# Altium integrated library Diodes - TVS.IntLib: 5379 symbols (part 84 of 122)
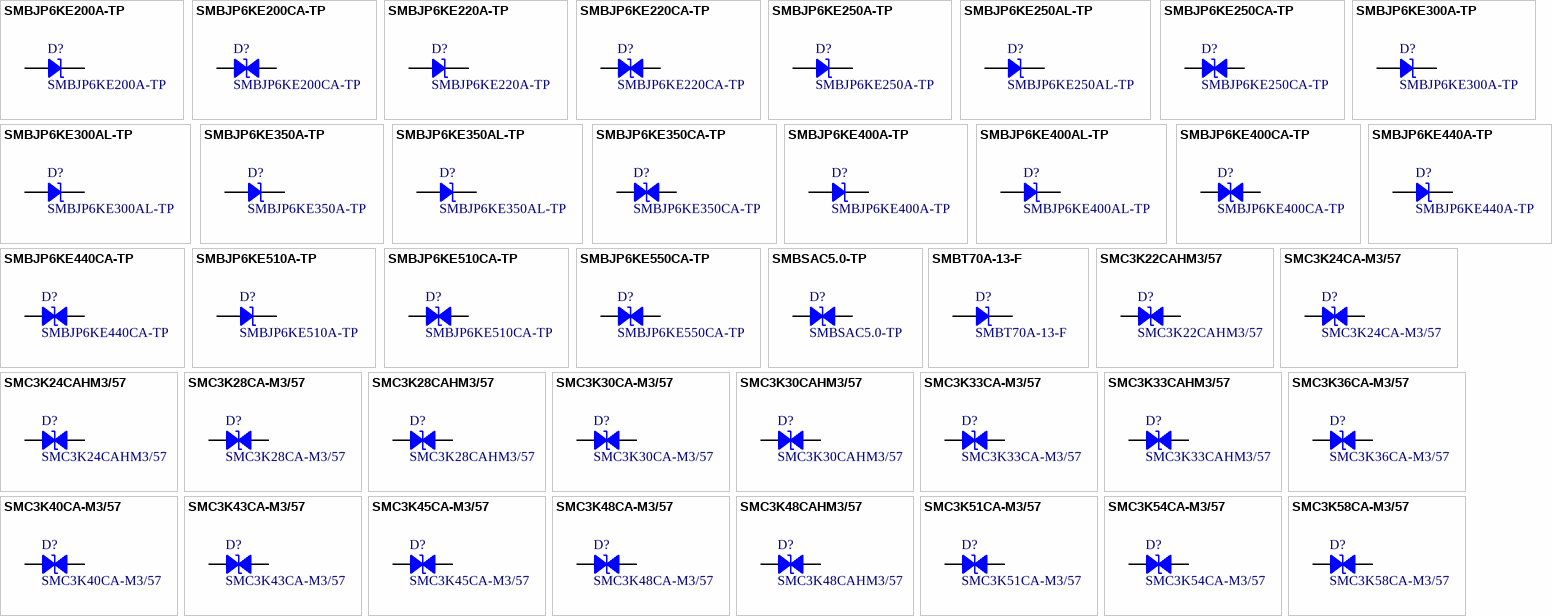
[diagram p217: symbols SMBJP6KE200A-TP to SMC3K58CA-M3/57]

## SMBJP6KE220A-TP
designator D?
TVS DIODE 185V 328V DO214AA; Manufacturer: Micro Commercial Co; Current - Peak Pulse (10/1000µs): 1.9A; Power Line Protection: No; Power - Peak Pulse: 600W; Type: Zener; Unidirectional Channels: 1; Voltage - Breakdown (Min): 209V; Part Number: SMBJP6KE220A-TP; Applications: General Purpose; ComponentLink1Description: Datasheet; ComponentLink1URL: https://www.mccsemi.com/pdf/Products/SMBJP6KE6.8(C)A-SMBJP6KE550(C)A(DO-214AA).pdf; ComponentLink2Description: DigiKey Link; ComponentLink2URL: http://digikey.com/product-detail/en/micro-commercial-co/SMBJP6KE220A-TP/SMBJP6KE220A-TPMSCT-ND/2345730; LastUpdated: 9/2/2020 1:19:43 AM; Lifecycle Status: Active; Minimum Order: 1; Mounting Type: Surface Mount; Operating Temperature: -55°C ~ 175°C (TJ); Package / Case: DO-214AA, SMB; Packaging: TapeAndReel; PartId: 10550; Part Status: Active; Price: 0.11; Series: SMBJ; Supplier 1: DigiKey; Supplier Part Number 1: SMBJP6KE220A-TPMSCT-ND; Supplier Device Package: DO-214AA (SMBJ); Voltage - Clamping (Max) @ Ipp: 328V; Voltage - Reverse Standoff (Typ): 185V
footprint DO214AA SMB
pins: 1, 2

## SMBJP6KE220CA-TP
designator D?
TVS DIODE 185V 328V DO214AA; Manufacturer: Micro Commercial Co; Bidirectional Channels: 1; Current - Peak Pulse (10/1000µs): 1.9A; Power Line Protection: No; Power - Peak Pulse: 600W; Type: Zener; Voltage - Breakdown (Min): 209V; Part Number: SMBJP6KE220CA-TP; Applications: General Purpose; ComponentLink1Description: Datasheet; ComponentLink1URL: https://www.mccsemi.com/pdf/Products/SMBJP6KE6.8(C)A-SMBJP6KE550(C)A(DO-214AA).pdf; ComponentLink2Description: DigiKey Link; ComponentLink2URL: http://digikey.com/product-detail/en/micro-commercial-co/SMBJP6KE220CA-TP/SMBJP6KE220CA-TPMSCT-ND/2345731; LastUpdated: 9/2/2020 1:28:15 AM; Lifecycle Status: Active; Minimum Order: 1; Mounting Type: Surface Mount; Operating Temperature: -55°C ~ 175°C (TJ); Package / Case: DO-214AA, SMB; Packaging: TapeAndReel; PartId: 8837; Part Status: Active; Price: 0.20; Series: SMBJ; Supplier 1: DigiKey; Supplier Part Number 1: SMBJP6KE220CA-TPMSCT-ND; Supplier Device Package: DO-214AA (SMBJ); Voltage - Clamping (Max) @ Ipp: 328V; Voltage - Reverse Standoff (Typ): 185V
footprint DO214AA SMB
pins: 1, 2

## SMBJP6KE250A-TP
designator D?
600WTVSSMB; Manufacturer: Micro Commercial Co; Current - Peak Pulse (10/1000µs): 1.9A; Power Line Protection: No; Power - Peak Pulse: 600W; Type: Zener; Unidirectional Channels: 1; Voltage - Breakdown (Min): 237V; Voltage - Clamping (Max) @ Ipp: 344V; Voltage - Reverse Standoff (Typ): 214V; Part Number: SMBJP6KE250A-TP; Applications: General Purpose; ComponentLink1Description: Datasheet; ComponentLink1URL: https://www.mccsemi.com/pdf/Products/SMBJP6KE6.8(C)A-SMBJP6KE550(C)A(DO-214AA)-V2.pdf; ComponentLink2Description: DigiKey Link; ComponentLink2URL: http://digikey.com/product-detail/en/micro-commercial-co/SMBJP6KE250A-TP/SMBJP6KE250A-TPMSCT-ND/10054424; LastUpdated: 9/2/2020 1:19:46 AM; Lifecycle Status: Active; Minimum Order: 1; Mounting Type: Surface Mount; Operating Temperature: -65°C ~ 150°C (TJ); Package / Case: DO-214AA, SMB; Packaging: TapeAndReel; PartId: 10843; Part Status: Active; Price: 0.20; Series: -; Supplier 1: DigiKey; Supplier Part Number 1: SMBJP6KE250A-TPMSCT-ND; Supplier Device Package: DO-214AA (SMB)
footprint DO214AA SMB
pins: 1, 2

## SMBJP6KE250AL-TP
designator D?
TVS DIODE 214V 344V DO214AA; Manufacturer: Micro Commercial Co; Current - Peak Pulse (10/1000µs): 1.9A; Power Line Protection: No; Power - Peak Pulse: 600W; Type: Zener; Unidirectional Channels: 1; Voltage - Breakdown (Min): 237V; Part Number: SMBJP6KE250AL-TP; Applications: General Purpose; ComponentLink1Description: Datasheet; ComponentLink1URL: https://www.mccsemi.com/pdf/Products/SMBJP6KE250AL~400AL(DO-214AA)-A.pdf; ComponentLink2Description: DigiKey Link; ComponentLink2URL: http://digikey.com/product-detail/en/micro-commercial-co/SMBJP6KE250AL-TP/SMBJP6KE250AL-TPMSCT-ND/6616159; LastUpdated: 9/2/2020 1:19:47 AM; Lifecycle Status: Active; Minimum Order: 1; Mounting Type: Surface Mount; Operating Temperature: -55°C ~ 175°C (TJ); Package / Case: DO-214AA, SMB; Packaging: TapeAndReel; PartId: 10920; Part Status: Active; Price: 0.16; Series: -; Supplier 1: DigiKey; Supplier Part Number 1: SMBJP6KE250AL-TPMSCT-ND; Supplier Device Package: DO-214AA (SMBJ); Voltage - Clamping (Max) @ Ipp: 344V; Voltage - Reverse Standoff (Typ): 214V
footprint DO214AA SMB
pins: 1, 2

## SMBJP6KE250CA-TP
designator D?
TVS DIODE 214V 344V DO214AA; Manufacturer: Micro Commercial Co; Bidirectional Channels: 1; Current - Peak Pulse (10/1000µs): 1.9A; Power Line Protection: No; Power - Peak Pulse: 600W; Type: Zener; Voltage - Breakdown (Min): 237V; Part Number: SMBJP6KE250CA-TP; Applications: General Purpose; ComponentLink1Description: Datasheet; ComponentLink1URL: https://www.mccsemi.com/pdf/Products/SMBJP6KE6.8(C)A-SMBJP6KE550(C)A(DO-214AA).pdf; ComponentLink2Description: DigiKey Link; ComponentLink2URL: http://digikey.com/product-detail/en/micro-commercial-co/SMBJP6KE250CA-TP/SMBJP6KE250CA-TPMSCT-ND/2345736; LastUpdated: 9/2/2020 1:28:15 AM; Lifecycle Status: Active; Minimum Order: 1; Mounting Type: Surface Mount; Operating Temperature: -55°C ~ 175°C (TJ); Package / Case: DO-214AA, SMB; Packaging: TapeAndReel; PartId: 8836; Part Status: Active; Price: 0.20; Series: SMBJ; Supplier 1: DigiKey; Supplier Part Number 1: SMBJP6KE250CA-TPMSCT-ND; Supplier Device Package: DO-214AA (SMBJ); Voltage - Clamping (Max) @ Ipp: 344V; Voltage - Reverse Standoff (Typ): 214V
footprint DO214AA SMB
pins: 1, 2

## SMBJP6KE300A-TP
designator D?
TVS DIODE 256V 414V DO214AA; Manufacturer: Micro Commercial Co; Current - Peak Pulse (10/1000µs): 1.5A; Power Line Protection: No; Power - Peak Pulse: 600W; Type: Zener; Unidirectional Channels: 1; Voltage - Breakdown (Min): 285V; Part Number: SMBJP6KE300A-TP; Applications: General Purpose; ComponentLink1Description: Datasheet; ComponentLink1URL: https://www.mccsemi.com/pdf/Products/SMBJP6KE6.8(C)A-SMBJP6KE550(C)A(DO-214AA).pdf; ComponentLink2Description: DigiKey Link; ComponentLink2URL: http://digikey.com/product-detail/en/micro-commercial-co/SMBJP6KE300A-TP/SMBJP6KE300A-TPMSCT-ND/2345739; LastUpdated: 9/2/2020 1:19:44 AM; Lifecycle Status: Active; Minimum Order: 1; Mounting Type: Surface Mount; Operating Temperature: -55°C ~ 175°C (TJ); Package / Case: DO-214AA, SMB; Packaging: TapeAndReel; PartId: 10650; Part Status: Active; Price: 0.09; Series: SMBJ; Supplier 1: DigiKey; Supplier Part Number 1: SMBJP6KE300A-TPMSCT-ND; Supplier Device Package: DO-214AA (SMBJ); Voltage - Clamping (Max) @ Ipp: 414V; Voltage - Reverse Standoff (Typ): 256V
footprint DO214AA SMB
pins: 1, 2

## SMBJP6KE300AL-TP
designator D?
TVS DIODE 256V 414V DO214AA; Manufacturer: Micro Commercial Co; Current - Peak Pulse (10/1000µs): 1.5A; Power Line Protection: No; Power - Peak Pulse: 600W; Type: Zener; Unidirectional Channels: 1; Voltage - Breakdown (Min): 285V; Part Number: SMBJP6KE300AL-TP; Applications: General Purpose; ComponentLink1Description: Datasheet; ComponentLink1URL: https://www.mccsemi.com/pdf/Products/SMBJP6KE250AL~400AL(DO-214AA)-A.pdf; ComponentLink2Description: DigiKey Link; ComponentLink2URL: http://digikey.com/product-detail/en/micro-commercial-co/SMBJP6KE300AL-TP/SMBJP6KE300AL-TPMSCT-ND/6616160; LastUpdated: 9/2/2020 1:19:47 AM; Lifecycle Status: Active; Minimum Order: 1; Mounting Type: Surface Mount; Operating Temperature: -55°C ~ 175°C (TJ); Package / Case: DO-214AA, SMB; Packaging: TapeAndReel; PartId: 10921; Part Status: Active; Price: 0.16; Series: -; Supplier 1: DigiKey; Supplier Part Number 1: SMBJP6KE300AL-TPMSCT-ND; Supplier Device Package: DO-214AA (SMBJ); Voltage - Clamping (Max) @ Ipp: 414V; Voltage - Reverse Standoff (Typ): 256V
footprint DO214AA SMB
pins: 1, 2

## SMBJP6KE350A-TP
designator D?
TVS DIODE 300V 482V DO214AA; Manufacturer: Micro Commercial Co; Current - Peak Pulse (10/1000µs): 1.3A; Power Line Protection: No; Power - Peak Pulse: 600W; Type: Zener; Unidirectional Channels: 1; Voltage - Breakdown (Min): 332V; Part Number: SMBJP6KE350A-TP; Applications: General Purpose; ComponentLink1Description: Datasheet; ComponentLink1URL: https://www.mccsemi.com/pdf/Products/SMBJP6KE6.8(C)A-SMBJP6KE550(C)A(DO-214AA).pdf; ComponentLink2Description: DigiKey Link; ComponentLink2URL: http://digikey.com/product-detail/en/micro-commercial-co/SMBJP6KE350A-TP/SMBJP6KE350A-TPMSCT-ND/2345744; LastUpdated: 9/2/2020 1:19:44 AM; Lifecycle Status: Active; Minimum Order: 1; Mounting Type: Surface Mount; Operating Temperature: -55°C ~ 175°C (TJ); Package / Case: DO-214AA, SMB; Packaging: TapeAndReel; PartId: 10658; Part Status: Active; Price: 0.11; Series: SMBJ; Supplier 1: DigiKey; Supplier Part Number 1: SMBJP6KE350A-TPMSCT-ND; Supplier Device Package: DO-214AA (SMBJ); Voltage - Clamping (Max) @ Ipp: 482V; Voltage - Reverse Standoff (Typ): 300V
footprint DO214AA SMB
pins: 1, 2

## SMBJP6KE350AL-TP
designator D?
TVS DIODE 300V 482V DO214AA; Manufacturer: Micro Commercial Co; Current - Peak Pulse (10/1000µs): 1.3A; Power Line Protection: No; Power - Peak Pulse: 600W; Type: Zener; Unidirectional Channels: 1; Voltage - Breakdown (Min): 332V; Part Number: SMBJP6KE350AL-TP; Applications: General Purpose; ComponentLink1Description: Datasheet; ComponentLink1URL: https://www.mccsemi.com/pdf/Products/SMBJP6KE250AL~400AL(DO-214AA)-A.pdf; ComponentLink2Description: DigiKey Link; ComponentLink2URL: http://digikey.com/product-detail/en/micro-commercial-co/SMBJP6KE350AL-TP/SMBJP6KE350AL-TPMSCT-ND/6616161; LastUpdated: 9/2/2020 1:19:47 AM; Lifecycle Status: Active; Minimum Order: 1; Mounting Type: Surface Mount; Operating Temperature: -55°C ~ 175°C (TJ); Package / Case: DO-214AA, SMB; Packaging: TapeAndReel; PartId: 10919; Part Status: Active; Price: 0.16; Series: -; Supplier 1: DigiKey; Supplier Part Number 1: SMBJP6KE350AL-TPMSCT-ND; Supplier Device Package: DO-214AA (SMBJ); Voltage - Clamping (Max) @ Ipp: 482V; Voltage - Reverse Standoff (Typ): 300V
footprint DO214AA SMB
pins: 1, 2

## SMBJP6KE350CA-TP
designator D?
TVS DIODE 300V 482V DO214AA; Manufacturer: Micro Commercial Co; Bidirectional Channels: 1; Current - Peak Pulse (10/1000µs): 1.3A; Power Line Protection: No; Power - Peak Pulse: 600W; Type: Zener; Voltage - Breakdown (Min): 332V; Part Number: SMBJP6KE350CA-TP; Applications: General Purpose; ComponentLink1Description: Datasheet; ComponentLink1URL: https://www.mccsemi.com/pdf/Products/SMBJP6KE6.8(C)A-SMBJP6KE550(C)A(DO-214AA).pdf; ComponentLink2Description: DigiKey Link; ComponentLink2URL: http://digikey.com/product-detail/en/micro-commercial-co/SMBJP6KE350CA-TP/SMBJP6KE350CA-TPMSCT-ND/2345745; LastUpdated: 9/2/2020 1:28:15 AM; Lifecycle Status: Active; Minimum Order: 1; Mounting Type: Surface Mount; Operating Temperature: -55°C ~ 175°C (TJ); Package / Case: DO-214AA, SMB; Packaging: TapeAndReel; PartId: 8830; Part Status: Active; Price: 0.20; Series: SMBJ; Supplier 1: DigiKey; Supplier Part Number 1: SMBJP6KE350CA-TPMSCT-ND; Supplier Device Package: DO-214AA (SMBJ); Voltage - Clamping (Max) @ Ipp: 482V; Voltage - Reverse Standoff (Typ): 300V
footprint DO214AA SMB
pins: 1, 2

## SMBJP6KE400A-TP
designator D?
TVS DIODE 342V 548V DO214AA; Manufacturer: Micro Commercial Co; Current - Peak Pulse (10/1000µs): 1.1A; Power Line Protection: No; Power - Peak Pulse: 600W; Type: Zener; Unidirectional Channels: 1; Voltage - Breakdown (Min): 380V; Part Number: SMBJP6KE400A-TP; Applications: General Purpose; ComponentLink1Description: Datasheet; ComponentLink1URL: https://www.mccsemi.com/pdf/Products/SMBJP6KE6.8(C)A-SMBJP6KE550(C)A(DO-214AA).pdf; ComponentLink2Description: DigiKey Link; ComponentLink2URL: http://digikey.com/product-detail/en/micro-commercial-co/SMBJP6KE400A-TP/SMBJP6KE400A-TPMSCT-ND/2345750; LastUpdated: 9/2/2020 1:19:45 AM; Lifecycle Status: Active; Minimum Order: 1; Mounting Type: Surface Mount; Operating Temperature: -55°C ~ 175°C (TJ); Package / Case: DO-214AA, SMB; Packaging: TapeAndReel; PartId: 10753; Part Status: Active; Price: 0.20; Series: SMBJ; Supplier 1: DigiKey; Supplier Part Number 1: SMBJP6KE400A-TPMSCT-ND; Supplier Device Package: DO-214AA (SMBJ); Voltage - Clamping (Max) @ Ipp: 548V; Voltage - Reverse Standoff (Typ): 342V
footprint DO214AA SMB
pins: 1, 2

## SMBJP6KE400AL-TP
designator D?
TVS DIODE 342V 548V DO214AA; Manufacturer: Micro Commercial Co; Current - Peak Pulse (10/1000µs): 1.1A; Power Line Protection: No; Power - Peak Pulse: 600W; Type: Zener; Unidirectional Channels: 1; Voltage - Breakdown (Min): 380V; Part Number: SMBJP6KE400AL-TP; Applications: General Purpose; ComponentLink1Description: Datasheet; ComponentLink1URL: https://www.mccsemi.com/pdf/Products/SMBJP6KE250AL~400AL(DO-214AA)-A.pdf; ComponentLink2Description: DigiKey Link; ComponentLink2URL: http://digikey.com/product-detail/en/micro-commercial-co/SMBJP6KE400AL-TP/SMBJP6KE400AL-TPMSCT-ND/6616162; LastUpdated: 9/2/2020 1:19:47 AM; Lifecycle Status: Active; Minimum Order: 1; Mounting Type: Surface Mount; Operating Temperature: -55°C ~ 175°C (TJ); Package / Case: DO-214AA, SMB; Packaging: TapeAndReel; PartId: 10918; Part Status: Active; Price: 0.16; Series: -; Supplier 1: DigiKey; Supplier Part Number 1: SMBJP6KE400AL-TPMSCT-ND; Supplier Device Package: DO-214AA (SMBJ); Voltage - Clamping (Max) @ Ipp: 548V; Voltage - Reverse Standoff (Typ): 342V
footprint DO214AA SMB
pins: 1, 2

## SMBJP6KE400CA-TP
designator D?
TVS DIODE 342V 548V DO214AA; Manufacturer: Micro Commercial Co; Bidirectional Channels: 1; Current - Peak Pulse (10/1000µs): 1.1A; Power Line Protection: No; Power - Peak Pulse: 600W; Type: Zener; Voltage - Breakdown (Min): 380V; Part Number: SMBJP6KE400CA-TP; Applications: General Purpose; ComponentLink1Description: Datasheet; ComponentLink1URL: https://www.mccsemi.com/pdf/Products/SMBJP6KE6.8(C)A-SMBJP6KE550(C)A(DO-214AA).pdf; ComponentLink2Description: DigiKey Link; ComponentLink2URL: http://digikey.com/product-detail/en/micro-commercial-co/SMBJP6KE400CA-TP/SMBJP6KE400CA-TPMSCT-ND/2345751; LastUpdated: 9/2/2020 1:28:16 AM; Lifecycle Status: Active; Minimum Order: 1; Mounting Type: Surface Mount; Operating Temperature: -55°C ~ 175°C (TJ); Package / Case: DO-214AA, SMB; Packaging: TapeAndReel; PartId: 8925; Part Status: Active; Price: 0.20; Series: SMBJ; Supplier 1: DigiKey; Supplier Part Number 1: SMBJP6KE400CA-TPMSCT-ND; Supplier Device Package: DO-214AA (SMBJ); Voltage - Clamping (Max) @ Ipp: 548V; Voltage - Reverse Standoff (Typ): 342V
footprint DO214AA SMB
pins: 1, 2

## SMBJP6KE440A-TP
designator D?
TVS DIODE 376V 602V DO214AA; Manufacturer: Micro Commercial Co; Current - Peak Pulse (10/1000µs): 1A; Power Line Protection: No; Power - Peak Pulse: 600W; Type: Zener; Unidirectional Channels: 1; Voltage - Breakdown (Min): 418V; Part Number: SMBJP6KE440A-TP; Applications: General Purpose; ComponentLink1Description: Datasheet; ComponentLink1URL: https://www.mccsemi.com/pdf/Products/SMBJP6KE6.8(C)A-SMBJP6KE550(C)A(DO-214AA).pdf; ComponentLink2Description: DigiKey Link; ComponentLink2URL: http://digikey.com/product-detail/en/micro-commercial-co/SMBJP6KE440A-TP/SMBJP6KE440A-TPMSCT-ND/5224324; LastUpdated: 9/2/2020 1:19:45 AM; Lifecycle Status: Active; Minimum Order: 1; Mounting Type: Surface Mount; Operating Temperature: -55°C ~ 175°C (TJ); Package / Case: DO-214AA, SMB; Packaging: TapeAndReel; PartId: 10752; Part Status: Active; Price: 0.20; Series: SMBJ; Supplier 1: DigiKey; Supplier Part Number 1: SMBJP6KE440A-TPMSCT-ND; Supplier Device Package: DO-214AA (SMBJ); Voltage - Clamping (Max) @ Ipp: 602V; Voltage - Reverse Standoff (Typ): 376V
footprint DO214AA SMB
pins: 1, 2

## SMBJP6KE440CA-TP
designator D?
TVS DIODE 376V 602V DO214AA; Manufacturer: Micro Commercial Co; Bidirectional Channels: 1; Current - Peak Pulse (10/1000µs): 1A; Power Line Protection: No; Power - Peak Pulse: 600W; Type: Zener; Voltage - Breakdown (Min): 418V; Part Number: SMBJP6KE440CA-TP; Applications: General Purpose; ComponentLink1Description: Datasheet; ComponentLink1URL: https://www.mccsemi.com/pdf/Products/SMBJP6KE6.8(C)A-SMBJP6KE550(C)A(DO-214AA).pdf; ComponentLink2Description: DigiKey Link; ComponentLink2URL: http://digikey.com/product-detail/en/micro-commercial-co/SMBJP6KE440CA-TP/SMBJP6KE440CA-TPMSCT-ND/2345754; LastUpdated: 9/2/2020 1:28:18 AM; Lifecycle Status: Active; Minimum Order: 1; Mounting Type: Surface Mount; Operating Temperature: -55°C ~ 175°C (TJ); Package / Case: DO-214AA, SMB; Packaging: TapeAndReel; PartId: 9168; Part Status: Active; Price: 0.20; Series: SMBJ; Supplier 1: DigiKey; Supplier Part Number 1: SMBJP6KE440CA-TPMSCT-ND; Supplier Device Package: DO-214AA (SMBJ); Voltage - Clamping (Max) @ Ipp: 602V; Voltage - Reverse Standoff (Typ): 376V
footprint DO214AA SMB
pins: 1, 2

## SMBJP6KE510A-TP
designator D?
TVS DIODE 434V 698V DO214AA; Manufacturer: Micro Commercial Co; Current - Peak Pulse (10/1000µs): 900mA; Power Line Protection: No; Power - Peak Pulse: 600W; Type: Zener; Unidirectional Channels: 1; Voltage - Breakdown (Min): 485V; Part Number: SMBJP6KE510A-TP; Applications: General Purpose; ComponentLink1Description: Datasheet; ComponentLink1URL: https://www.mccsemi.com/pdf/Products/SMBJP6KE6.8(C)A-SMBJP6KE550(C)A(DO-214AA).pdf; ComponentLink2Description: DigiKey Link; ComponentLink2URL: http://digikey.com/product-detail/en/micro-commercial-co/SMBJP6KE510A-TP/SMBJP6KE510A-TPMSCT-ND/2345757; LastUpdated: 9/2/2020 1:19:50 AM; Lifecycle Status: Active; Minimum Order: 1; Mounting Type: Surface Mount; Operating Temperature: -55°C ~ 175°C (TJ); Package / Case: DO-214AA, SMB; Packaging: TapeAndReel; PartId: 11268; Part Status: Active; Price: 0.20; Series: SMBJ; Supplier 1: DigiKey; Supplier Part Number 1: SMBJP6KE510A-TPMSCT-ND; Supplier Device Package: DO-214AA (SMBJ); Voltage - Clamping (Max) @ Ipp: 698V; Voltage - Reverse Standoff (Typ): 434V
footprint DO214AA SMB
pins: 1, 2

## SMBJP6KE510CA-TP
designator D?
TVS DIODE 434V 698V DO214AA; Manufacturer: Micro Commercial Co; Bidirectional Channels: 1; Current - Peak Pulse (10/1000µs): 900mA; Power Line Protection: No; Power - Peak Pulse: 600W; Type: Zener; Voltage - Breakdown (Min): 485V; Part Number: SMBJP6KE510CA-TP; Applications: General Purpose; ComponentLink1Description: Datasheet; ComponentLink1URL: https://www.mccsemi.com/pdf/Products/SMBJP6KE6.8(C)A-SMBJP6KE550(C)A(DO-214AA).pdf; ComponentLink2Description: DigiKey Link; ComponentLink2URL: http://digikey.com/product-detail/en/micro-commercial-co/SMBJP6KE510CA-TP/SMBJP6KE510CA-TPMSCT-ND/2345758; LastUpdated: 9/2/2020 1:28:18 AM; Lifecycle Status: Active; Minimum Order: 1; Mounting Type: Surface Mount; Operating Temperature: -55°C ~ 175°C (TJ); Package / Case: DO-214AA, SMB; Packaging: TapeAndReel; PartId: 9176; Part Status: Active; Price: 0.20; Series: SMBJ; Supplier 1: DigiKey; Supplier Part Number 1: SMBJP6KE510CA-TPMSCT-ND; Supplier Device Package: DO-214AA (SMBJ); Voltage - Clamping (Max) @ Ipp: 698V; Voltage - Reverse Standoff (Typ): 434V
footprint DO214AA SMB
pins: 1, 2

## SMBJP6KE550CA-TP
designator D?
TVS DIODE 495V 760V DO214AA; Manufacturer: Micro Commercial Co; Bidirectional Channels: 1; Current - Peak Pulse (10/1000µs): 800mA; Power Line Protection: No; Power - Peak Pulse: 600W; Type: Zener; Voltage - Breakdown (Min): 522.5V; Part Number: SMBJP6KE550CA-TP; Applications: General Purpose; ComponentLink1Description: Datasheet; ComponentLink1URL: https://www.mccsemi.com/pdf/Products/SMBJP6KE6.8(C)A-SMBJP6KE550(C)A(DO-214AA).pdf; ComponentLink2Description: DigiKey Link; ComponentLink2URL: http://digikey.com/product-detail/en/micro-commercial-co/SMBJP6KE550CA-TP/SMBJP6KE550CA-TPMSCT-ND/2345761; LastUpdated: 9/2/2020 1:28:18 AM; Lifecycle Status: Active; Minimum Order: 1; Mounting Type: Surface Mount; Operating Temperature: -55°C ~ 175°C (TJ); Package / Case: DO-214AA, SMB; Packaging: TapeAndReel; PartId: 9173; Part Status: Active; Price: 0.23; Series: SMBJ; Supplier 1: DigiKey; Supplier Part Number 1: SMBJP6KE550CA-TPMSCT-ND; Supplier Device Package: DO-214AA (SMBJ); Voltage - Clamping (Max) @ Ipp: 760V; Voltage - Reverse Standoff (Typ): 495V
footprint DO214AA SMB
pins: 1, 2

## SMBSAC5.0-TP
designator D?
TVS DIODE 5V 10V DO214AA; Manufacturer: Micro Commercial Co; Bidirectional Channels: 1; Current - Peak Pulse (10/1000µs): 44A; Power Line Protection: No; Power - Peak Pulse: 500W; Type: Zener; Voltage - Breakdown (Min): 7.6V; Part Number: SMBSAC5.0-TP; Applications: General Purpose; ComponentLink1Description: Datasheet; ComponentLink1URL: https://www.mccsemi.com/pdf/Products/SMBSAC5.0-SMBSAC50(DO-214AA).pdf; ComponentLink2Description: DigiKey Link; ComponentLink2URL: http://digikey.com/product-detail/en/micro-commercial-co/SMBSAC5.0-TP/SMBSAC5.0-TPMSCT-ND/2441288; LastUpdated: 9/2/2020 1:28:18 AM; Lifecycle Status: Active; Minimum Order: 1; Mounting Type: Surface Mount; Operating Temperature: -55°C ~ 175°C (TJ); Package / Case: DO-214AA, SMB; Packaging: TapeAndReel; PartId: 9191; Part Status: Active; Price: 0.04; Series: -; Supplier 1: DigiKey; Supplier Part Number 1: SMBSAC5.0-TPMSCT-ND; Supplier Device Package: DO-214AA (SMB); Voltage - Clamping (Max) @ Ipp: 10V; Voltage - Reverse Standoff (Typ): 5V
footprint DO214AA SMB
pins: 1, 2

## SMBT70A-13-F
designator D?
TVS DIODE 70V 100V SMB; Manufacturer: Diodes Incorporated; Capacitance @ Frequency: 290pF @ 1MHz; Current - Peak Pulse (10/1000µs): 5.3A; Power Line Protection: No; Power - Peak Pulse: 600W; Type: Zener; Unidirectional Channels: 1; Voltage - Breakdown (Min): 44.8V; Part Number: SMBT70A-13-F; Applications: General Purpose; ComponentLink1Description: Datasheet; ComponentLink1URL: https://www.diodes.com/assets/Datasheets/ds30213.pdf; ComponentLink2Description: DigiKey Link; ComponentLink2URL: http://digikey.com/product-detail/en/diodes-incorporated/SMBT70A-13-F/SMBT70A-13-FDICT-ND/2242796; LastUpdated: 9/2/2020 1:19:46 AM; Lifecycle Status: Active; Minimum Order: 1; Mounting Type: Surface Mount; Operating Temperature: -55°C ~ 150°C (TJ); Package / Case: DO-214AA, SMB; Packaging: TapeAndReel; PartId: 10838; Part Status: Active; Price: 0.20; Series: -; Supplier 1: DigiKey; Supplier Part Number 1: SMBT70A-13-FDICT-ND; Supplier Device Package: SMB; Voltage - Clamping (Max) @ Ipp: 100V; Voltage - Reverse Standoff (Typ): 70V
footprint DO214AA SMB
pins: 1, 2

## SMC3K22CAHM3/57
designator D?
TVS DIODE 22V 35.5V DO214AB; Manufacturer: Vishay Semiconductor Diodes Division; Bidirectional Channels: 1; Current - Peak Pulse (10/1000µs): 84.5A; Power Line Protection: No; Power - Peak Pulse: 3000W (3kW); Type: Zener; Voltage - Breakdown (Min): 24.4V; Part Number: SMC3K22CAHM3/57; Applications: Automotive; ComponentLink1Description: Datasheet; ComponentLink1URL: http://www.vishay.com/docs/89433/smc3k22ca.pdf; ComponentLink2Description: DigiKey Link; ComponentLink2URL: http://digikey.com/product-detail/en/vishay-semiconductor-diodes-division/SMC3K22CAHM3-57/SMC3K22CAHM3-57GICT-ND/9601109; LastUpdated: 9/2/2020 1:28:06 AM; Lifecycle Status: Active; Minimum Order: 1; Mounting Type: Surface Mount; Operating Temperature: -55°C ~ 150°C (TJ); Package / Case: DO-214AB, SMC; Packaging: TapeAndReel; PartId: 8423; Part Status: Active; Price: 0.98; Series: Automotive, AEC-Q101, TransZorb®; Supplier 1: DigiKey; Supplier Part Number 1: SMC3K22CAHM3/57GICT-ND; Supplier Device Package: DO-214AB (SMCJ); Voltage - Clamping (Max) @ Ipp: 35.5V; Voltage - Reverse Standoff (Typ): 22V
footprint DO214AB SMC
pins: 1, 2

## SMC3K24CA-M3/57
designator D?
TVS DIODE 24V 38.9V DO214AB; Manufacturer: Vishay Semiconductor Diodes Division; Bidirectional Channels: 1; Current - Peak Pulse (10/1000µs): 77.1A; Power Line Protection: No; Power - Peak Pulse: 3000W (3kW); Type: Zener; Voltage - Breakdown (Min): 26.7V; Part Number: SMC3K24CA-M3/57; Applications: General Purpose; ComponentLink1Description: Datasheet; ComponentLink1URL: http://www.vishay.com/docs/89433/smc3k22ca.pdf; ComponentLink2Description: DigiKey Link; ComponentLink2URL: http://digikey.com/product-detail/en/vishay-semiconductor-diodes-division/SMC3K24CA-M3-57/SMC3K24CA-M3-57GICT-ND/3868479; LastUpdated: 9/2/2020 1:28:04 AM; Lifecycle Status: Active; Minimum Order: 1; Mounting Type: Surface Mount; Operating Temperature: -55°C ~ 150°C (TJ); Package / Case: DO-214AB, SMC; Packaging: TapeAndReel; PartId: 8240; Part Status: Active; Price: 0.89; Series: TransZorb®; Supplier 1: DigiKey; Supplier Part Number 1: SMC3K24CA-M3/57GICT-ND; Supplier Device Package: DO-214AB (SMCJ); Voltage - Clamping (Max) @ Ipp: 38.9V; Voltage - Reverse Standoff (Typ): 24V
footprint DO214AB SMC
pins: 1, 2

## SMC3K24CAHM3/57
designator D?
TVS DIODE 24V 38.9V DO214AB; Manufacturer: Vishay Semiconductor Diodes Division; Bidirectional Channels: 1; Current - Peak Pulse (10/1000µs): 77.1A; Power Line Protection: No; Power - Peak Pulse: 3000W (3kW); Type: Zener; Voltage - Breakdown (Min): 26.7V; Part Number: SMC3K24CAHM3/57; Applications: Automotive; ComponentLink1Description: Datasheet; ComponentLink1URL: http://www.vishay.com/docs/89433/smc3k22ca.pdf; ComponentLink2Description: DigiKey Link; ComponentLink2URL: http://digikey.com/product-detail/en/vishay-semiconductor-diodes-division/SMC3K24CAHM3-57/SMC3K24CAHM3-57GICT-ND/9601110; LastUpdated: 9/2/2020 1:28:01 AM; Lifecycle Status: Active; Minimum Order: 1; Mounting Type: Surface Mount; Operating Temperature: -55°C ~ 150°C (TJ); Package / Case: DO-214AB, SMC; Packaging: TapeAndReel; PartId: 7883; Part Status: Active; Price: 0.98; Series: Automotive, AEC-Q101, TransZorb®; Supplier 1: DigiKey; Supplier Part Number 1: SMC3K24CAHM3/57GICT-ND; Supplier Device Package: DO-214AB (SMCJ); Voltage - Clamping (Max) @ Ipp: 38.9V; Voltage - Reverse Standoff (Typ): 24V
footprint DO214AB SMC
pins: 1, 2

## SMC3K28CA-M3/57
designator D?
TVS DIODE 28V 45.4V DO214AB; Manufacturer: Vishay Semiconductor Diodes Division; Bidirectional Channels: 1; Current - Peak Pulse (10/1000µs): 66.1A; Power Line Protection: No; Power - Peak Pulse: 3000W (3kW); Type: Zener; Voltage - Breakdown (Min): 31.1V; Part Number: SMC3K28CA-M3/57; Applications: General Purpose; ComponentLink1Description: Datasheet; ComponentLink1URL: http://www.vishay.com/docs/89433/smc3k22ca.pdf; ComponentLink2Description: DigiKey Link; ComponentLink2URL: http://digikey.com/product-detail/en/vishay-semiconductor-diodes-division/SMC3K28CA-M3-57/SMC3K28CA-M3-57GICT-ND/3868480; LastUpdated: 9/2/2020 1:28:07 AM; Lifecycle Status: Active; Minimum Order: 1; Mounting Type: Surface Mount; Operating Temperature: -55°C ~ 150°C (TJ); Package / Case: DO-214AB, SMC; Packaging: TapeAndReel; PartId: 8520; Part Status: Active; Price: 0.89; Series: TransZorb®; Supplier 1: DigiKey; Supplier Part Number 1: SMC3K28CA-M3/57GICT-ND; Supplier Device Package: DO-214AB (SMCJ); Voltage - Clamping (Max) @ Ipp: 45.4V; Voltage - Reverse Standoff (Typ): 28V
footprint DO214AB SMC
pins: 1, 2

## SMC3K28CAHM3/57
designator D?
TVS DIODE 28V 45.4V DO214AB; Manufacturer: Vishay Semiconductor Diodes Division; Bidirectional Channels: 1; Current - Peak Pulse (10/1000µs): 66.1A; Power Line Protection: No; Power - Peak Pulse: 3000W (3kW); Type: Zener; Voltage - Breakdown (Min): 31.1V; Part Number: SMC3K28CAHM3/57; Applications: Automotive; ComponentLink1Description: Datasheet; ComponentLink1URL: http://www.vishay.com/docs/89433/smc3k22ca.pdf; ComponentLink2Description: DigiKey Link; ComponentLink2URL: http://digikey.com/product-detail/en/vishay-semiconductor-diodes-division/SMC3K28CAHM3-57/SMC3K28CAHM3-57GICT-ND/9601111; LastUpdated: 9/2/2020 1:28:01 AM; Lifecycle Status: Active; Minimum Order: 1; Mounting Type: Surface Mount; Operating Temperature: -55°C ~ 150°C (TJ); Package / Case: DO-214AB, SMC; Packaging: TapeAndReel; PartId: 7880; Part Status: Active; Price: 0.98; Series: Automotive, AEC-Q101, TransZorb®; Supplier 1: DigiKey; Supplier Part Number 1: SMC3K28CAHM3/57GICT-ND; Supplier Device Package: DO-214AB (SMCJ); Voltage - Clamping (Max) @ Ipp: 45.4V; Voltage - Reverse Standoff (Typ): 28V
footprint DO214AB SMC
pins: 1, 2

## SMC3K30CA-M3/57
designator D?
TVS DIODE 30VWM 48.4VC DO-214AB; Manufacturer: Vishay Semiconductor Diodes Division; Bidirectional Channels: 1; Current - Peak Pulse (10/1000µs): 62A; Power Line Protection: No; Power - Peak Pulse: 3000W (3kW); Type: Zener; Voltage - Breakdown (Min): 33.3V; Voltage - Clamping (Max) @ Ipp: 48.4V; Voltage - Reverse Standoff (Typ): 30V; Part Number: SMC3K30CA-M3/57; Applications: General Purpose; ComponentLink1Description: Datasheet; ComponentLink1URL: http://www.vishay.com/docs/89433/smc3k22ca.pdf; ComponentLink2Description: DigiKey Link; ComponentLink2URL: http://digikey.com/product-detail/en/vishay-semiconductor-diodes-division/SMC3K30CA-M3-57/SMC3K30CA-M3-57GICT-ND/8565226; LastUpdated: 9/2/2020 1:28:07 AM; Lifecycle Status: Active; Minimum Order: 1; Mounting Type: Surface Mount; Operating Temperature: -55°C ~ 150°C (TJ); Package / Case: DO-214AB, SMC; Packaging: TapeAndReel; PartId: 8522; Part Status: Active; Price: 0.89; Series: TransZorb®; Supplier 1: DigiKey; Supplier Part Number 1: SMC3K30CA-M3/57GICT-ND; Supplier Device Package: DO-214AB (SMCJ)
footprint DO214AB SMC
pins: 1, 2

## SMC3K30CAHM3/57
designator D?
TVS DIODE 30V 48.4V DO214AB; Manufacturer: Vishay Semiconductor Diodes Division; Bidirectional Channels: 1; Current - Peak Pulse (10/1000µs): 62A; Power Line Protection: No; Power - Peak Pulse: 3000W (3kW); Type: Zener; Voltage - Breakdown (Min): 33.3V; Part Number: SMC3K30CAHM3/57; Applications: Automotive; ComponentLink1Description: Datasheet; ComponentLink1URL: http://www.vishay.com/docs/89433/smc3k22ca.pdf; ComponentLink2Description: DigiKey Link; ComponentLink2URL: http://digikey.com/product-detail/en/vishay-semiconductor-diodes-division/SMC3K30CAHM3-57/SMC3K30CAHM3-57GICT-ND/9601112; LastUpdated: 9/2/2020 1:28:01 AM; Lifecycle Status: Active; Minimum Order: 1; Mounting Type: Surface Mount; Operating Temperature: -55°C ~ 150°C (TJ); Package / Case: DO-214AB, SMC; Packaging: TapeAndReel; PartId: 7881; Part Status: Active; Price: 0.98; Series: Automotive, AEC-Q101, TransZorb®; Supplier 1: DigiKey; Supplier Part Number 1: SMC3K30CAHM3/57GICT-ND; Supplier Device Package: DO-214AB (SMCJ); Voltage - Clamping (Max) @ Ipp: 48.4V; Voltage - Reverse Standoff (Typ): 30V
footprint DO214AB SMC
pins: 1, 2

## SMC3K33CA-M3/57
designator D?
TVS DIODE 33V 53.3V DO214AB; Manufacturer: Vishay Semiconductor Diodes Division; Bidirectional Channels: 1; Current - Peak Pulse (10/1000µs): 56.3A; Power Line Protection: No; Power - Peak Pulse: 3000W (3kW); Type: Zener; Voltage - Breakdown (Min): 36.7V; Part Number: SMC3K33CA-M3/57; Applications: General Purpose; ComponentLink1Description: Datasheet; ComponentLink1URL: http://www.vishay.com/docs/89433/smc3k22ca.pdf; ComponentLink2Description: DigiKey Link; ComponentLink2URL: http://digikey.com/product-detail/en/vishay-semiconductor-diodes-division/SMC3K33CA-M3-57/SMC3K33CA-M3-57GICT-ND/3868481; LastUpdated: 9/2/2020 1:28:07 AM; Lifecycle Status: Active; Minimum Order: 1; Mounting Type: Surface Mount; Operating Temperature: -55°C ~ 150°C (TJ); Package / Case: DO-214AB, SMC; Packaging: TapeAndReel; PartId: 8524; Part Status: Active; Price: 0.89; Series: TransZorb®; Supplier 1: DigiKey; Supplier Part Number 1: SMC3K33CA-M3/57GICT-ND; Supplier Device Package: DO-214AB (SMCJ); Voltage - Clamping (Max) @ Ipp: 53.3V; Voltage - Reverse Standoff (Typ): 33V
footprint DO214AB SMC
pins: 1, 2

## SMC3K33CAHM3/57
designator D?
TVS DIODE 33V 53.3V DO214AB; Manufacturer: Vishay Semiconductor Diodes Division; Bidirectional Channels: 1; Current - Peak Pulse (10/1000µs): 56.3A; Power Line Protection: No; Power - Peak Pulse: 3000W (3kW); Type: Zener; Voltage - Breakdown (Min): 36.7V; Part Number: SMC3K33CAHM3/57; Applications: Automotive; ComponentLink1Description: Datasheet; ComponentLink1URL: http://www.vishay.com/docs/89433/smc3k22ca.pdf; ComponentLink2Description: DigiKey Link; ComponentLink2URL: http://digikey.com/product-detail/en/vishay-semiconductor-diodes-division/SMC3K33CAHM3-57/SMC3K33CAHM3-57GICT-ND/9601113; LastUpdated: 9/2/2020 1:28:06 AM; Lifecycle Status: Active; Minimum Order: 1; Mounting Type: Surface Mount; Operating Temperature: -55°C ~ 150°C (TJ); Package / Case: DO-214AB, SMC; Packaging: TapeAndReel; PartId: 8422; Part Status: Active; Price: 0.98; Series: Automotive, AEC-Q101, TransZorb®; Supplier 1: DigiKey; Supplier Part Number 1: SMC3K33CAHM3/57GICT-ND; Supplier Device Package: DO-214AB (SMCJ); Voltage - Clamping (Max) @ Ipp: 53.3V; Voltage - Reverse Standoff (Typ): 33V
footprint DO214AB SMC
pins: 1, 2

## SMC3K36CA-M3/57
designator D?
TVS DIODE 36V 58.1V DO214AB; Manufacturer: Vishay Semiconductor Diodes Division; Bidirectional Channels: 1; Current - Peak Pulse (10/1000µs): 51.6A; Power Line Protection: No; Power - Peak Pulse: 3000W (3kW); Type: Zener; Voltage - Breakdown (Min): 40V; Part Number: SMC3K36CA-M3/57; Applications: General Purpose; ComponentLink1Description: Datasheet; ComponentLink1URL: http://www.vishay.com/docs/89433/smc3k22ca.pdf; ComponentLink2Description: DigiKey Link; ComponentLink2URL: http://digikey.com/product-detail/en/vishay-semiconductor-diodes-division/SMC3K36CA-M3-57/SMC3K36CA-M3-57GICT-ND/3868482; LastUpdated: 9/2/2020 1:28:01 AM; Lifecycle Status: Active; Minimum Order: 1; Mounting Type: Surface Mount; Operating Temperature: -55°C ~ 150°C (TJ); Package / Case: DO-214AB, SMC; Packaging: TapeAndReel; PartId: 7892; Part Status: Active; Price: 0.89; Series: TransZorb®; Supplier 1: DigiKey; Supplier Part Number 1: SMC3K36CA-M3/57GICT-ND; Supplier Device Package: DO-214AB (SMCJ); Voltage - Clamping (Max) @ Ipp: 58.1V; Voltage - Reverse Standoff (Typ): 36V
footprint DO214AB SMC
pins: 1, 2

## SMC3K40CA-M3/57
designator D?
TVS DIODE 40V 64.5V DO214AB; Manufacturer: Vishay Semiconductor Diodes Division; Bidirectional Channels: 1; Current - Peak Pulse (10/1000µs): 46.5A; Power Line Protection: No; Power - Peak Pulse: 3000W (3kW); Type: Zener; Voltage - Breakdown (Min): 44.4V; Part Number: SMC3K40CA-M3/57; Applications: General Purpose; ComponentLink1Description: Datasheet; ComponentLink1URL: http://www.vishay.com/docs/89433/smc3k22ca.pdf; ComponentLink2Description: DigiKey Link; ComponentLink2URL: http://digikey.com/product-detail/en/vishay-semiconductor-diodes-division/SMC3K40CA-M3-57/SMC3K40CA-M3-57GICT-ND/8284134; LastUpdated: 9/2/2020 1:28:07 AM; Lifecycle Status: Active; Minimum Order: 1; Mounting Type: Surface Mount; Operating Temperature: -55°C ~ 150°C (TJ); Package / Case: DO-214AB, SMC; Packaging: TapeAndReel; PartId: 8527; Part Status: Active; Price: 0.89; Series: TransZorb®; Supplier 1: DigiKey; Supplier Part Number 1: SMC3K40CA-M3/57GICT-ND; Supplier Device Package: DO-214AB (SMCJ); Voltage - Clamping (Max) @ Ipp: 64.5V; Voltage - Reverse Standoff (Typ): 40V
footprint DO214AB SMC
pins: 1, 2

## SMC3K43CA-M3/57
designator D?
TVS DIODE 43V 69.4V DO214AB; Manufacturer: Vishay Semiconductor Diodes Division; Bidirectional Channels: 1; Current - Peak Pulse (10/1000µs): 43.2A; Power Line Protection: No; Power - Peak Pulse: 3000W (3kW); Type: Zener; Voltage - Breakdown (Min): 47.8V; Part Number: SMC3K43CA-M3/57; Applications: General Purpose; ComponentLink1Description: Datasheet; ComponentLink1URL: http://www.vishay.com/docs/89433/smc3k22ca.pdf; ComponentLink2Description: DigiKey Link; ComponentLink2URL: http://digikey.com/product-detail/en/vishay-semiconductor-diodes-division/SMC3K43CA-M3-57/SMC3K43CA-M3-57GICT-ND/3868483; LastUpdated: 9/2/2020 1:28:07 AM; Lifecycle Status: Active; Minimum Order: 1; Mounting Type: Surface Mount; Operating Temperature: -55°C ~ 150°C (TJ); Package / Case: DO-214AB, SMC; Packaging: TapeAndReel; PartId: 8582; Part Status: Active; Price: 0.89; Series: TransZorb®; Supplier 1: DigiKey; Supplier Part Number 1: SMC3K43CA-M3/57GICT-ND; Supplier Device Package: DO-214AB (SMCJ); Voltage - Clamping (Max) @ Ipp: 69.4V; Voltage - Reverse Standoff (Typ): 43V
footprint DO214AB SMC
pins: 1, 2

## SMC3K45CA-M3/57
designator D?
TVS DIODE 45VWM 72.7VC DO-214AB; Manufacturer: Vishay Semiconductor Diodes Division; Bidirectional Channels: 1; Current - Peak Pulse (10/1000µs): 41.3A; Power Line Protection: No; Power - Peak Pulse: 3000W (3kW); Type: Zener; Voltage - Breakdown (Min): 50V; Voltage - Clamping (Max) @ Ipp: 72.7V; Voltage - Reverse Standoff (Typ): 45V; Part Number: SMC3K45CA-M3/57; Applications: General Purpose; ComponentLink1Description: Datasheet; ComponentLink1URL: http://www.vishay.com/docs/89433/smc3k22ca.pdf; ComponentLink2Description: DigiKey Link; ComponentLink2URL: http://digikey.com/product-detail/en/vishay-semiconductor-diodes-division/SMC3K45CA-M3-57/SMC3K45CA-M3-57GICT-ND/8565227; LastUpdated: 9/2/2020 1:28:07 AM; Lifecycle Status: Active; Minimum Order: 1; Mounting Type: Surface Mount; Operating Temperature: -55°C ~ 150°C (TJ); Package / Case: DO-214AB, SMC; Packaging: TapeAndReel; PartId: 8523; Part Status: Active; Price: 0.89; Series: TransZorb®; Supplier 1: DigiKey; Supplier Part Number 1: SMC3K45CA-M3/57GICT-ND; Supplier Device Package: DO-214AB (SMCJ)
footprint DO214AB SMC
pins: 1, 2

## SMC3K48CA-M3/57
designator D?
TVS DIODE 48V 77.4V DO214AB; Manufacturer: Vishay Semiconductor Diodes Division; Bidirectional Channels: 1; Current - Peak Pulse (10/1000µs): 38.8A; Power Line Protection: No; Power - Peak Pulse: 3000W (3kW); Type: Zener; Voltage - Breakdown (Min): 53.3V; Part Number: SMC3K48CA-M3/57; Applications: General Purpose; ComponentLink1Description: Datasheet; ComponentLink1URL: http://www.vishay.com/docs/89433/smc3k22ca.pdf; ComponentLink2Description: DigiKey Link; ComponentLink2URL: http://digikey.com/product-detail/en/vishay-semiconductor-diodes-division/SMC3K48CA-M3-57/SMC3K48CA-M3-57GICT-ND/3868484; LastUpdated: 9/2/2020 1:28:03 AM; Lifecycle Status: Active; Minimum Order: 1; Mounting Type: Surface Mount; Operating Temperature: -55°C ~ 150°C (TJ); Package / Case: DO-214AB, SMC; Packaging: TapeAndReel; PartId: 8078; Part Status: Active; Price: 0.89; Series: TransZorb®; Supplier 1: DigiKey; Supplier Part Number 1: SMC3K48CA-M3/57GICT-ND; Supplier Device Package: DO-214AB (SMCJ); Voltage - Clamping (Max) @ Ipp: 77.4V; Voltage - Reverse Standoff (Typ): 48V
footprint DO214AB SMC
pins: 1, 2

## SMC3K48CAHM3/57
designator D?
TVS DIODE 48VWM 77.4VC DO-214AB; Manufacturer: Vishay Semiconductor Diodes Division; Bidirectional Channels: 1; Current - Peak Pulse (10/1000µs): 38.8A; Power Line Protection: No; Power - Peak Pulse: 3000W (3kW); Type: Zener; Voltage - Breakdown (Min): 53.3V; Voltage - Clamping (Max) @ Ipp: 77.4V; Voltage - Reverse Standoff (Typ): 48V; Part Number: SMC3K48CAHM3/57; Applications: Automotive; ComponentLink1Description: Datasheet; ComponentLink1URL: http://www.vishay.com/docs/89433/smc3k22ca.pdf; ComponentLink2Description: DigiKey Link; ComponentLink2URL: http://digikey.com/product-detail/en/vishay-semiconductor-diodes-division/SMC3K48CAHM3-57/SMC3K48CAHM3-57GICT-ND/8565228; LastUpdated: 9/2/2020 1:28:01 AM; Lifecycle Status: Active; Minimum Order: 1; Mounting Type: Surface Mount; Operating Temperature: -55°C ~ 150°C (TJ); Package / Case: DO-214AB, SMC; Packaging: TapeAndReel; PartId: 7882; Part Status: Active; Price: 0.98; Series: Automotive, AEC-Q101, TransZorb®; Supplier 1: DigiKey; Supplier Part Number 1: SMC3K48CAHM3/57GICT-ND; Supplier Device Package: DO-214AB (SMCJ)
footprint DO214AB SMC
pins: 1, 2

## SMC3K51CA-M3/57
designator D?
TVS DIODE 51V 82.4V DO214AB; Manufacturer: Vishay Semiconductor Diodes Division; Bidirectional Channels: 1; Current - Peak Pulse (10/1000µs): 36.4A; Power Line Protection: No; Power - Peak Pulse: 3000W (3kW); Type: Zener; Voltage - Breakdown (Min): 56.7V; Part Number: SMC3K51CA-M3/57; Applications: General Purpose; ComponentLink1Description: Datasheet; ComponentLink1URL: http://www.vishay.com/docs/89433/smc3k22ca.pdf; ComponentLink2Description: DigiKey Link; ComponentLink2URL: http://digikey.com/product-detail/en/vishay-semiconductor-diodes-division/SMC3K51CA-M3-57/SMC3K51CA-M3-57GICT-ND/3868485; LastUpdated: 9/2/2020 1:28:07 AM; Lifecycle Status: Active; Minimum Order: 1; Mounting Type: Surface Mount; Operating Temperature: -55°C ~ 150°C (TJ); Package / Case: DO-214AB, SMC; Packaging: TapeAndReel; PartId: 8521; Part Status: Active; Price: 0.89; Series: TransZorb®; Supplier 1: DigiKey; Supplier Part Number 1: SMC3K51CA-M3/57GICT-ND; Supplier Device Package: DO-214AB (SMCJ); Voltage - Clamping (Max) @ Ipp: 82.4V; Voltage - Reverse Standoff (Typ): 51V
footprint DO214AB SMC
pins: 1, 2

## SMC3K54CA-M3/57
designator D?
TVS DIODE 54VWM 87.1VC DO-214AB; Manufacturer: Vishay Semiconductor Diodes Division; Bidirectional Channels: 1; Current - Peak Pulse (10/1000µs): 34.4A; Power Line Protection: No; Power - Peak Pulse: 3000W (3kW); Type: Zener; Voltage - Breakdown (Min): 60V; Voltage - Clamping (Max) @ Ipp: 87.1V; Voltage - Reverse Standoff (Typ): 54V; Part Number: SMC3K54CA-M3/57; Applications: General Purpose; ComponentLink1Description: Datasheet; ComponentLink1URL: http://www.vishay.com/docs/89433/smc3k22ca.pdf; ComponentLink2Description: DigiKey Link; ComponentLink2URL: http://digikey.com/product-detail/en/vishay-semiconductor-diodes-division/SMC3K54CA-M3-57/SMC3K54CA-M3-57GICT-ND/8565229; LastUpdated: 9/2/2020 1:28:07 AM; Lifecycle Status: Active; Minimum Order: 1; Mounting Type: Surface Mount; Operating Temperature: -55°C ~ 150°C (TJ); Package / Case: DO-214AB, SMC; Packaging: TapeAndReel; PartId: 8526; Part Status: Active; Price: 0.89; Series: TransZorb®; Supplier 1: DigiKey; Supplier Part Number 1: SMC3K54CA-M3/57GICT-ND; Supplier Device Package: DO-214AB (SMCJ)
footprint DO214AB SMC
pins: 1, 2

## SMC3K58CA-M3/57
designator D?
TVS DIODE 58V 93.6V DO214AB; Manufacturer: Vishay Semiconductor Diodes Division; Bidirectional Channels: 1; Current - Peak Pulse (10/1000µs): 32.1A; Power Line Protection: No; Power - Peak Pulse: 3000W (3kW); Type: DO-214AB, SMC; Voltage - Breakdown (Min): 64.4V; Part Number: SMC3K58CA-M3/57; Applications: General Purpose; ComponentLink1Description: Datasheet; ComponentLink1URL: http://www.vishay.com/docs/89433/smc3k22ca.pdf; ComponentLink2Description: DigiKey Link; ComponentLink2URL: http://digikey.com/product-detail/en/vishay-semiconductor-diodes-division/SMC3K58CA-M3-57/112-SMC3K58CA-M3-57CT-ND/11562564; LastUpdated: 9/2/2020 1:28:01 AM; Lifecycle Status: Active; Minimum Order: 0; Mounting Type: Surface Mount; Operating Temperature: -55°C ~ 150°C (TJ); Package / Case: DO-214AB, SMC; Packaging: TapeAndReel; PartId: 7865; Part Status: -55°C ~ 150°C (TJ); Price: 0.76; Series: TransZorb®; Supplier 1: DigiKey; Supplier Part Number 1: 112-SMC3K58CA-M3/57CT-ND; Supplier Device Package: DO-214AB (SMCJ); Voltage - Clamping (Max) @ Ipp: 93.6V; Voltage - Reverse Standoff (Typ): 58V
footprint DO214AB SMC
pins: 1, 2

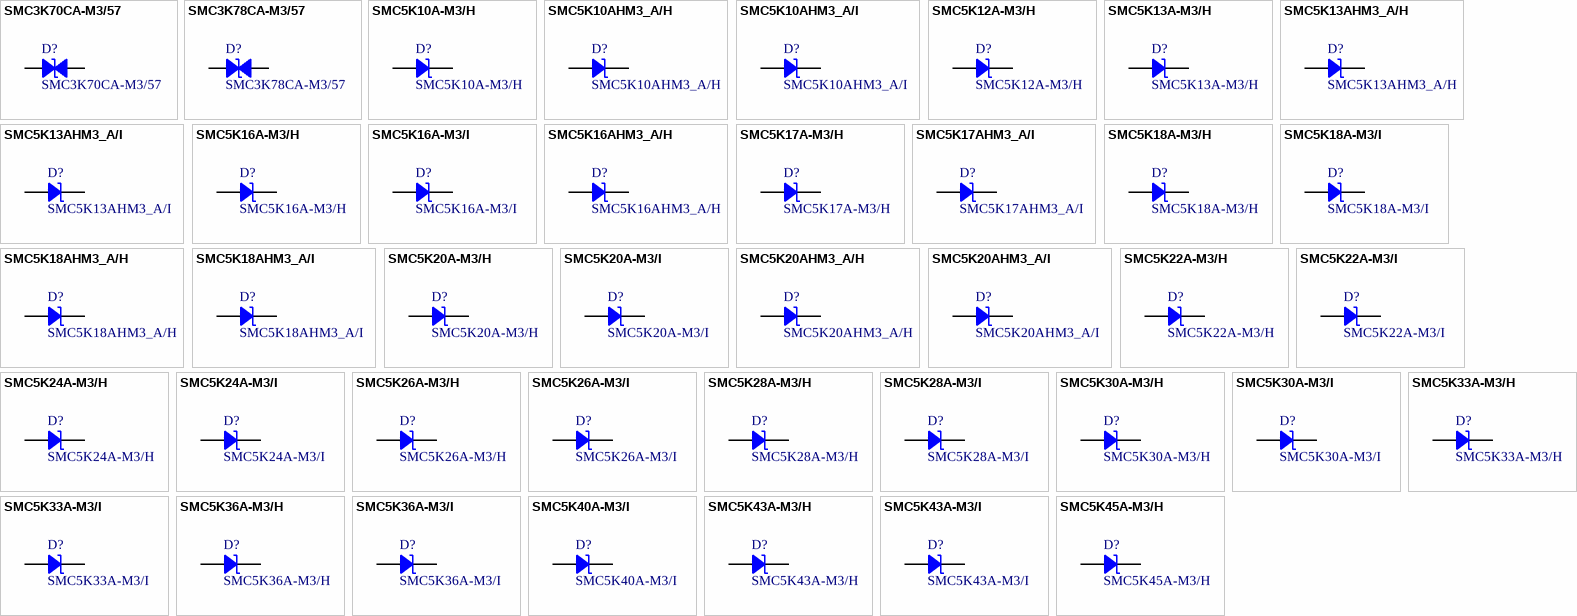
[diagram p93: symbols SMC3K70CA-M3/57 to SMC5K45A-M3/H]

## SMC3K70CA-M3/57
designator D?
TVS DIODE 70V 113V DO214AB; Manufacturer: Vishay Semiconductor Diodes Division; Bidirectional Channels: 1; Current - Peak Pulse (10/1000µs): 26.5A; Power Line Protection: No; Power - Peak Pulse: 3000W (3kW); Type: Zener; Voltage - Breakdown (Min): 77.8V; Part Number: SMC3K70CA-M3/57; Applications: General Purpose; ComponentLink1Description: Datasheet; ComponentLink1URL: http://www.vishay.com/docs/89433/smc3k22ca.pdf; ComponentLink2Description: DigiKey Link; ComponentLink2URL: http://digikey.com/product-detail/en/vishay-semiconductor-diodes-division/SMC3K70CA-M3-57/SMC3K70CA-M3-57GICT-ND/9601114; LastUpdated: 9/2/2020 1:28:07 AM; Lifecycle Status: Active; Minimum Order: 1; Mounting Type: Surface Mount; Operating Temperature: -55°C ~ 150°C (TJ); Package / Case: DO-214AB, SMC; Packaging: TapeAndReel; PartId: 8525; Part Status: Active; Price: 0.89; Series: TransZorb®; Supplier 1: DigiKey; Supplier Part Number 1: SMC3K70CA-M3/57GICT-ND; Supplier Device Package: DO-214AB (SMCJ); Voltage - Clamping (Max) @ Ipp: 113V; Voltage - Reverse Standoff (Typ): 70V
footprint DO214AB SMC
pins: 1, 2

## SMC3K78CA-M3/57
designator D?
TVS DIODE 78V 126V DO214AB; Manufacturer: Vishay Semiconductor Diodes Division; Bidirectional Channels: 1; Current - Peak Pulse (10/1000µs): 23.8A; Power Line Protection: No; Power - Peak Pulse: 3000W (3kW); Type: Zener; Voltage - Breakdown (Min): 86.7V; Part Number: SMC3K78CA-M3/57; Applications: General Purpose; ComponentLink1Description: Datasheet; ComponentLink1URL: http://www.vishay.com/docs/89433/smc3k22ca.pdf; ComponentLink2Description: DigiKey Link; ComponentLink2URL: http://digikey.com/product-detail/en/vishay-semiconductor-diodes-division/SMC3K78CA-M3-57/SMC3K78CA-M3-57GICT-ND/3868486; LastUpdated: 9/2/2020 1:28:01 AM; Lifecycle Status: Active; Minimum Order: 1; Mounting Type: Surface Mount; Operating Temperature: -55°C ~ 150°C (TJ); Package / Case: DO-214AB, SMC; Packaging: TapeAndReel; PartId: 7891; Part Status: Active; Price: 0.89; Series: TransZorb®; Supplier 1: DigiKey; Supplier Part Number 1: SMC3K78CA-M3/57GICT-ND; Supplier Device Package: DO-214AB (SMCJ); Voltage - Clamping (Max) @ Ipp: 126V; Voltage - Reverse Standoff (Typ): 78V
footprint DO214AB SMC
pins: 1, 2

## SMC5K10A-M3/H
designator D?
TVS DIODE 10V 17V DO214AB; Manufacturer: Vishay Semiconductor Diodes Division; Current - Peak Pulse (10/1000µs): 294.1A; Power Line Protection: No; Power - Peak Pulse: 5000W (5kW); Type: Zener; Unidirectional Channels: 1; Voltage - Breakdown (Min): 11.1V; Part Number: SMC5K10A-M3/H; Applications: General Purpose; ComponentLink1Description: Datasheet; ComponentLink1URL: http://www.vishay.com/docs/87742/smc5k10a.pdf; ComponentLink2Description: DigiKey Link; ComponentLink2URL: http://digikey.com/product-detail/en/vishay-semiconductor-diodes-division/SMC5K10A-M3-H/SMC5K10A-M3-HGICT-ND/6167163; LastUpdated: 9/2/2020 1:20:04 AM; Lifecycle Status: Active; Minimum Order: 1; Mounting Type: Surface Mount; Operating Temperature: -55°C ~ 150°C (TJ); Package / Case: DO-214AB, SMC; Packaging: TapeAndReel; PartId: 6827; Part Status: Active; Price: 0.97; Series: TransZorb®; Supplier 1: DigiKey; Supplier Part Number 1: SMC5K10A-M3/HGICT-ND; Supplier Device Package: DO-214AB (SMCJ); Voltage - Clamping (Max) @ Ipp: 17V; Voltage - Reverse Standoff (Typ): 10V
footprint DO214AB SMC
pins: 1, 2

## SMC5K10AHM3_A/H
designator D?
TVS DIODE 10V 17V DO214AB; Manufacturer: Vishay Semiconductor Diodes Division; Current - Peak Pulse (10/1000µs): 294A; Power Line Protection: No; Power - Peak Pulse: 5000W (5kW); Type: Zener; Unidirectional Channels: 1; Voltage - Breakdown (Min): 11.1V; Part Number: SMC5K10AHM3_A/H; Applications: Automotive; ComponentLink1Description: Datasheet; ComponentLink1URL: http://www.vishay.com/docs/87742/smc5k10a.pdf; ComponentLink2Description: DigiKey Link; ComponentLink2URL: http://digikey.com/product-detail/en/vishay-semiconductor-diodes-division/SMC5K10AHM3_A-H/SMC5K10AHM3_A-HTR-ND/8540395; LastUpdated: 9/2/2020 1:20:06 AM; Lifecycle Status: Active; Minimum Order: 850; Mounting Type: Surface Mount; Operating Temperature: -55°C ~ 150°C (TJ); Package / Case: DO-214AB, SMC; Packaging: TapeAndReel; PartId: 7014; Part Status: Active; Price: 1.05; Series: Automotive, AEC-Q101, TransZorb®; Supplier 1: DigiKey; Supplier Part Number 1: SMC5K10AHM3_A/HTR-ND; Supplier Device Package: DO-214AB (SMCJ); Voltage - Clamping (Max) @ Ipp: 17V; Voltage - Reverse Standoff (Typ): 10V
footprint DO214AB SMC
pins: 1, 2

## SMC5K10AHM3_A/I
designator D?
TVS DIODE 10V 17V DO214AB; Manufacturer: Vishay Semiconductor Diodes Division; Current - Peak Pulse (10/1000µs): 294.1A; Power Line Protection: No; Power - Peak Pulse: 5000W (5kW); Type: Zener; Unidirectional Channels: 1; Voltage - Breakdown (Min): 11.1V; Part Number: SMC5K10AHM3_A/I; Applications: Automotive; ComponentLink1Description: Datasheet; ComponentLink1URL: http://www.vishay.com/docs/87742/smc5k10a.pdf; ComponentLink2Description: DigiKey Link; ComponentLink2URL: http://digikey.com/product-detail/en/vishay-semiconductor-diodes-division/SMC5K10AHM3_A-I/SMC5K10AHM3_A-ICT-ND/7347819; LastUpdated: 9/2/2020 1:19:58 AM; Lifecycle Status: Active; Minimum Order: 0; Mounting Type: Surface Mount; Operating Temperature: -55°C ~ 150°C (TJ); Package / Case: DO-214AB, SMC; Packaging: TapeAndReel; PartId: 6231; Part Status: Active; Price: 0.83; Series: Automotive, AEC-Q101, TransZorb®; Supplier 1: DigiKey; Supplier Part Number 1: SMC5K10AHM3_A/ICT-ND; Supplier Device Package: DO-214AB (SMCJ); Voltage - Clamping (Max) @ Ipp: 17V; Voltage - Reverse Standoff (Typ): 10V
footprint DO214AB SMC
pins: 1, 2

## SMC5K12A-M3/H
designator D?
TVS DIODE 12V 19.9V DO214AB; Manufacturer: Vishay Semiconductor Diodes Division; Current - Peak Pulse (10/1000µs): 251.3A; Power Line Protection: No; Power - Peak Pulse: 5000W (5kW); Type: Zener; Unidirectional Channels: 1; Voltage - Breakdown (Min): 13.3V; Part Number: SMC5K12A-M3/H; Applications: General Purpose; ComponentLink1Description: Datasheet; ComponentLink1URL: http://www.vishay.com/docs/87742/smc5k10a.pdf; ComponentLink2Description: DigiKey Link; ComponentLink2URL: http://digikey.com/product-detail/en/vishay-semiconductor-diodes-division/SMC5K12A-M3-H/SMC5K12A-M3-HGICT-ND/6167164; LastUpdated: 9/2/2020 1:20:04 AM; Lifecycle Status: Active; Minimum Order: 1; Mounting Type: Surface Mount; Operating Temperature: -55°C ~ 150°C (TJ); Package / Case: DO-214AB, SMC; Packaging: TapeAndReel; PartId: 6828; Part Status: Active; Price: 0.97; Series: TransZorb®; Supplier 1: DigiKey; Supplier Part Number 1: SMC5K12A-M3/HGICT-ND; Supplier Device Package: DO-214AB (SMCJ); Voltage - Clamping (Max) @ Ipp: 19.9V; Voltage - Reverse Standoff (Typ): 12V
footprint DO214AB SMC
pins: 1, 2